# Altium footprint library Inverter Processor PCB.PcbLib: 44 footprints (part 1 of 3)
Each footprint in its own frame and in the unit in brackets; x right, y up, seen from the top. Pads: shape width x height; smd on the part's side, far side on the other; paste and mask are expansions set on the pad; w line width, h text height; cw(c..) or ccw(c..) is an arc to the next point about the centre after c.
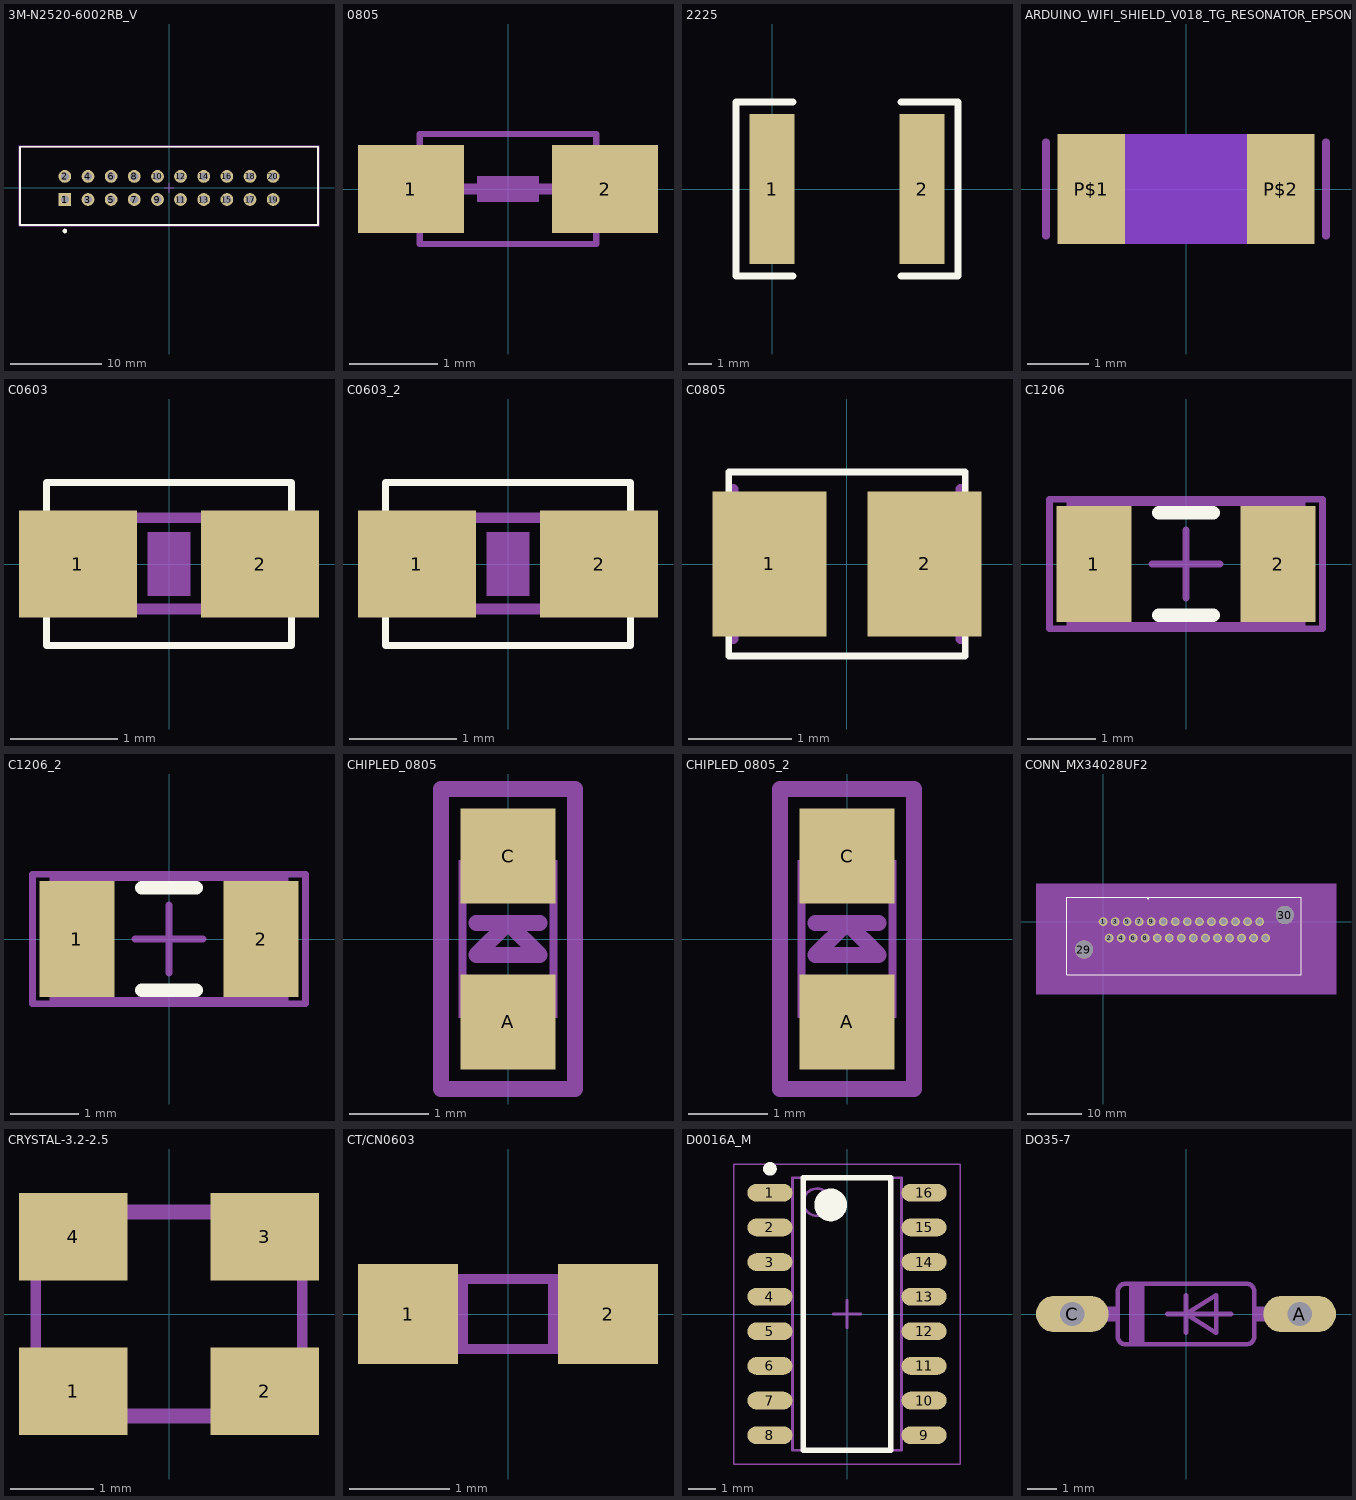
[diagram p0: the footprints below, top view; thin cyan lines are the x and y axes]

## 3M-N2520-6002RB_V [mm] "CONN, 20-Leads, Body 32.72x8.59mm, Picth 2.54mm"
height 9.91
pads (20):
  rect 1.4x1.4 hole 0.89: 1(-11.43,-1.27)
  round 1.4 hole 0.89: 2(-11.43,1.27) 3(-8.89,-1.27) 4(-8.89,1.27) 5(-6.35,-1.27) 6(-6.35,1.27) 7(-3.81,-1.27) 8(-3.81,1.27) 9(-1.27,-1.27) 10(-1.27,1.27) 11(1.27,-1.27) 12(1.27,1.27) 13(3.81,-1.27) 14(3.81,1.27) 15(6.35,-1.27) 16(6.35,1.27) 17(8.89,-1.27) 18(8.89,1.27) 19(11.43,-1.27) 20(11.43,1.27)
Top Overlay:
  circle w0.25: c-11.43,-4.72 r0.125
  lines w0.2: -16.36,-4.07 -16.36,4.52 16.36,4.52 16.36,-4.07 -16.36,-4.07
Mechanical 13:
  lines w0.1: -16.36,-4.07 16.36,-4.07 16.36,4.52 -16.36,4.52 -16.36,-4.07
Mechanical 15:
  lines w0.05: -16.46,-4.17 -16.46,4.62 16.46,4.62 16.46,-4.17 -16.46,-4.17
  lines w0.1: -0.5,0 0.5,0 ; 0,-0.5 0,0.5
3D body: height 9.91, standoff 0, extent -16.359,-4.069 16.359,4.519

## 0805 [mm] "0805"
pads (2):
  rect 1.2x1 smd: 1(-1.1,0) 2(1.1,0)
Mechanical 2:
  rectangle: -0.35,-0.15 0.35,0.15
  lines w0.07: -1,-0.625 1,-0.625 ; -1,0.625 1,0.625
  lines w0.127: -1.3,0 1.2,0
Mechanical 16:
  lines w0.07: -1,-0.625 -1,0.625 ; 1,-0.625 1,0.625
  lines w0.127: -1.1,0 1.1,0

## 2225 [mm]
pads (2):
  rect 1.905x6.35 smd: 1(0,0) 2(6.35,0)
Top Overlay:
  lines w0.305: 0.889,-3.683 -1.524,-3.683 -1.524,3.683 0.889,3.683 ; 5.461,-3.683 7.874,-3.683 7.874,3.683 5.461,3.683

## ARDUINO_WIFI_SHIELD_V018_TG_RESONATOR_EPSON_FC_145 [mm] "ARDUINO_WIFI_SHIELD_V018_TG_RESONATOR_EPSON_FC_145"
pads (2):
  rect 1.1x1.8 smd: P$1(-1.55,0) P$2(1.55,0)
Bottom Layer keep-out:
  rectangle: -1,-0.9 1,0.9
Mechanical 3:
  lines w0.127: -2.286,-0.762 -2.286,0.762 ; 2.286,-0.762 2.286,0.762

## C0603 [mm] "C0603"
pads (2):
  rect 1.1x1 smd: 1(-0.85,0) 2(0.85,0)
Top Overlay:
  lines w0.064: -1.143,-0.762 1.143,-0.762 1.143,0.762 -1.143,0.762 -1.143,-0.762
Mechanical 8:
  rectangle: -0.2,-0.3 0.2,0.3
Mechanical 16:
  rectangle: -0.838,-0.47 -0.338,0.48
  rectangle: 0.33,-0.47 0.83,0.48
  lines w0.102: -0.356,-0.419 0.356,-0.419 ; -0.356,0.432 0.356,0.432

## C0603_2 [mm]
pads (2):
  rect 1.1x1 smd: 1(-0.85,0) 2(0.85,0)
Top Overlay:
  lines w0.064: -1.143,-0.762 1.143,-0.762 1.143,0.762 -1.143,0.762 -1.143,-0.762
Mechanical 8:
  rectangle: -0.2,-0.3 0.2,0.3
Mechanical 16:
  rectangle: -0.838,-0.47 -0.338,0.48
  rectangle: 0.33,-0.47 0.83,0.48
  lines w0.102: -0.356,-0.419 0.356,-0.419 ; -0.356,0.432 0.356,0.432

## C0805 [mm] "Chip Capacitor, Body 2.0x1.3mm, IPC High Density"
height 1.4
pads (2):
  rect 1.1x1.4 smd: 1(-0.75,0) 2(0.75,0)
Top Overlay:
  lines w0.064: -1.143,-0.889 -1.143,0.889 1.143,0.889 1.143,-0.889 -1.143,-0.889
Mechanical 13:
  lines w0.1: -1.1,-0.725 -1.1,0.725 ; 1.1,-0.725 1.1,0.725

## C1206 [mm] "Chip Capacitor, Body 3.2x1.6mm, IPC High Density"
height 1.3
pads (2):
  rect 1.1x1.7 smd: 1(-1.35,0) 2(1.35,0)
Top Overlay:
  lines w0.2: -0.4,-0.75 0.4,-0.75 ; -0.4,0.75 0.4,0.75
Mechanical 13:
  lines w0.1: -1.7,-0.9 -1.7,0.9 1.7,0.9 1.7,-0.9 -1.7,-0.9
Mechanical 15:
  lines w0.1: -0.5,0 0.5,0 ; 0,-0.5 0,0.5 ; -2,-0.95 -2,0.95 2,0.95 2,-0.95 -2,-0.95
3D body: height 1.3, standoff 0, extent -1.7,-0.9 1.7,0.9

## C1206_2 [mm]
pads (2):
  rect 1.1x1.7 smd: 1(-1.35,0) 2(1.35,0)
Top Overlay:
  lines w0.2: -0.4,-0.75 0.4,-0.75 ; -0.4,0.75 0.4,0.75
Mechanical 13:
  lines w0.1: -1.7,-0.9 -1.7,0.9 1.7,0.9 1.7,-0.9 -1.7,-0.9
Mechanical 15:
  lines w0.1: -0.5,0 0.5,0 ; 0,-0.5 0,0.5 ; -2,-0.95 -2,0.95 2,0.95 2,-0.95 -2,-0.95
3D body: height 1.3, standoff 0, extent -1.7,-0.9 1.7,0.9

## CHIPLED_0805 [mm] "CHIPLED_0805"
pads (2):
  rect 1.2x1.2 smd: A(0,-1.05) C(0,1.05)
Mechanical 2:
  lines w0.203: -0.4,0.2 0,0.2 ; 0.4,0.2 0,0.2 ; 0,0.2 -0.4,-0.2 0.4,-0.2 0,0.2 ; -0.85,-1.9 0.85,-1.9 0.85,1.9 -0.85,1.9 -0.85,-1.9
Mechanical 16:
  circle w0.076: c-0.45,0.85 r0.103
  rectangle: 0.3,0.5 0.625,1
  rectangle: -0.325,0.5 -0.175,0.75
  rectangle: 0.175,0.5 0.325,0.75
  rectangle: -0.2,0.5 0.2,0.675
  rectangle: 0.3,-1 0.625,-0.5
  rectangle: -0.625,-1 -0.3,-0.5
  rectangle: 0.175,-0.75 0.325,-0.5
  rectangle: -0.325,-0.75 -0.175,-0.5
  rectangle: -0.2,-0.675 0.2,-0.5
  rectangle: -0.6,0.5 -0.3,0.762
  rectangle: -0.625,0.925 -0.3,1
  lines w0.102: -0.575,-0.5 -0.575,0.925 ; -0.35,-0.925 cw(c0,-0.979) 0.35,-0.925 ; -0.35,0.925 ccw(c0,0.979) 0.35,0.925 ; 0.575,-0.525 0.575,0.525
Mechanical 18:
  text "A" at 0.136,-1.148 h0.7
  text "C" at 0.123,1.452 h0.7

## CHIPLED_0805_2 [mm]
pads (2):
  rect 1.2x1.2 smd: A(0,-1.05) C(0,1.05)
Mechanical 2:
  lines w0.203: -0.4,0.2 0,0.2 ; 0.4,0.2 0,0.2 ; 0,0.2 -0.4,-0.2 0.4,-0.2 0,0.2 ; -0.85,-1.9 0.85,-1.9 0.85,1.9 -0.85,1.9 -0.85,-1.9
Mechanical 16:
  circle w0.076: c-0.45,0.85 r0.103
  rectangle: 0.3,0.5 0.625,1
  rectangle: -0.325,0.5 -0.175,0.75
  rectangle: 0.175,0.5 0.325,0.75
  rectangle: -0.2,0.5 0.2,0.675
  rectangle: 0.3,-1 0.625,-0.5
  rectangle: -0.625,-1 -0.3,-0.5
  rectangle: 0.175,-0.75 0.325,-0.5
  rectangle: -0.325,-0.75 -0.175,-0.5
  rectangle: -0.2,-0.675 0.2,-0.5
  rectangle: -0.6,0.5 -0.3,0.762
  rectangle: -0.625,0.925 -0.3,1
  lines w0.102: -0.575,-0.5 -0.575,0.925 ; -0.35,-0.925 cw(c0,-0.979) 0.35,-0.925 ; -0.35,0.925 ccw(c0,0.979) 0.35,0.925 ; 0.575,-0.525 0.575,0.525
Mechanical 18:
  text "A" at 0.136,-1.148 h0.7
  text "C" at 0.123,1.452 h0.7

## CONN_MX34028UF2 [mil] "JAE 28 way vertical connector 2.2mm pitch"
height 925.2
pads (30):
  round 63 hole 43 mask+0: 1(0,0) 2(43.31,-118.11) 3(86.61,0) 4(129.92,-118.11) 5(173.23,0) 6(216.54,-118.11) 7(259.84,0) 8(303.15,-118.11) 9(346.46,0) 10(389.76,-118.11) 11(433.07,0) 12(476.38,-118.11) 13(519.68,0) 14(562.99,-118.11) 15(606.3,-0.16) 16(649.61,-118.11) 17(692.91,0) 18(736.22,-118.11) 19(779.53,0) 20(822.83,-118.11) 21(866.14,0) 22(909.45,-118.11) 23(952.76,0) 24(996.06,-118.11) 25(1039.37,0) 26(1082.68,-118.11) 27(1125.98,0) 28(1169.29,-118.11)
  round 130 hole 130: 29(-137.72,-200.94) 30(1307.17,47.09)
Top Overlay:
  lines w6: -260.62,-382.87 1425.2,-382.87 1425.2,174.13 -260.62,174.13 -260.62,-382.87 ; 319.88,164.13 329.88,164.13 329.88,174.13 319.88,174.13 319.88,164.13
Mechanical 5:
  region: -482.63,273.38 1675.55,273.38 1675.55,-523.62 -482.63,-523.62
Mechanical 7:
  lines w1: 949.69,-0.16 944.69,9.84 954.69,9.84 949.69,-0.16 ; 949.69,-0.16 944.69,-10.16 954.69,-10.16 949.69,-0.16
Mechanical 13:
  lines w1: -255.62,-377.87 1421.26,-377.87 1421.26,169.13 -255.62,169.13 -255.62,-377.87
Mechanical 15:
  region: 1431.1,-387.87 1431.1,179.13 -265.62,179.13 -265.62,-387.87
  lines w6: -265.62,-387.87 -265.62,179.13 1431.1,179.13 1431.1,-387.87 -265.62,-387.87

## CRYSTAL-3.2-2.5 [mm] "CRYSTAL-3.2-2.5"
pads (4):
  rect 1.3x1.05 smd: 1(-1.15,-0.925) 2(1.15,-0.925) 3(1.15,0.925) 4(-1.15,0.925)
Mechanical 2:
  lines w0.127: -1.6,-1.25 1.6,-1.25 1.6,1.25 -1.6,1.25 -1.6,-1.25
Mechanical 16:
  lines w0.127: -1.6,-1.2 1.6,-1.2 1.6,1.2 -1.6,1.2 -1.6,-1.2

## CT/CN0603 [mm] "CT/CN0603"
pads (2):
  rect 1x1 smd: 1(-1,0) 2(1,0)
Mechanical 16:
  rectangle: -0.75,-0.35 -0.4,0.35
  region: 0.75,0.35 0.4,0.35 0.4,-0.35 0.75,-0.35
  lines w0.102: -0.75,-0.35 0.75,-0.35 0.75,0.35 -0.75,0.35 -0.75,-0.35

## D0016A_M [mm] "SOIC, 16-Leads, Body 10x4mm, Pitch 1.27mm, IPC Low Density"
height 1.75
pads (16):
  oval 1.65x0.65 smd: 1(-2.825,4.445) 2(-2.825,3.175) 3(-2.825,1.905) 4(-2.825,0.635) 5(-2.825,-0.635) 6(-2.825,-1.905) 7(-2.825,-3.175) 8(-2.825,-4.445) 9(2.825,-4.445) 10(2.825,-3.175) 11(2.825,-1.905) 12(2.825,-0.635) 13(2.825,0.635) 14(2.825,1.905) 15(2.825,3.175) 16(2.825,4.445)
Top Overlay:
  circle w0.6: c-0.6,4 r0.3
  circle w0.25: c-2.825,5.32 r0.125
  lines w0.2: -1.6,-5 1.6,-5 1.6,5 -1.6,5 -1.6,-5
Mechanical 13:
  circle w0.1: c-1.1,4.1 r0.5
  lines w0.1: -2,-5 2,-5 2,5 -2,5 -2,-5
Mechanical 15:
  lines w0.05: -4.15,-5.5 4.15,-5.5 4.15,5.5 -4.15,5.5 -4.15,-5.5
  lines w0.1: -0.5,0 0.5,0 ; 0,-0.5 0,0.5
3D body "SOIC-16akaD0016AakaM16A.stp": height 1.59, standoff -0.01, extent -2.997,-4.953 2.997,4.953

## DO35-7 [mil] "DO35-7"
pads (2):
  oval 96x48 hole 32: A(150,0) C(-150,0)
Mechanical 2:
  rectangle: -75,-40 -55,40
  rectangle: 90,-10 115,10
  rectangle: -115,-10 -90,10
  lines w6: -25,0 0,0 ; 0,-25 0,0 ; 0,25 0,0 ; 60,0 0,0 ; 0,0 40,-25 40,25 0,0 ; -90,-30 ccw(c-80,-30) -80,-40 80,-40 ccw(c80,-30) 90,-30 90,30 ccw(c80,30) 80,40 -80,40 ccw(c-80,30) -90,30 -90,-30
Mechanical 16:
  lines w20: -150,0 -115,0 ; 115,0 150,0